# Altium schematic symbol library GeneralComponents.SchLib: 16 symbols
Pins are listed as number, name and electrical type; pins without a type are passive.

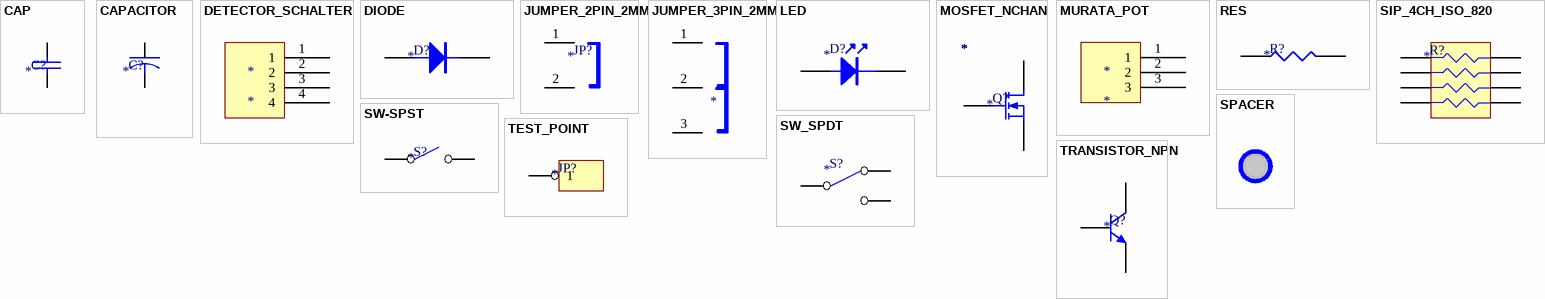
[diagram p0: symbols CAP to TRANSISTOR_NPN]

## CAP
designator C?
Generic ceramic capacitor
footprint 1206
footprint 0805
pins: 1, 2

## CAPACITOR
designator C?
General polarized capacitor
footprint 1206
footprint CAPMOTOR
footprint 0805
footprint KEMET_TANTALUM (Kemet Tantalum Capacitor B451)
pins: 1, 2

## DETECTOR_SCHALTER
designator *
footprint DETECTOR_SCHALTER (Detector Schalter Conrad JDS-1105A)
pins: 1, 2, 3, 4

## DIODE
designator D?
Generic diode
footprint 1206
footprint 1206_DIODE
footprint 0805
pins: 1 A, 2 C

## JUMPER_2PIN_2MM
designator JP?
2 pin Jumper; Text Field1: S2105-02-ND & SPE1302-ND; Text Field2: (sullens) PRPN021PAEN & (delphi) 2JM-G; Text Field3: 1302 is its mate
footprint 2PIN_2MM
footprint 2PIN_2.54MM
pins: 1, 2

## JUMPER_3PIN_2MM
designator ?
3 pin jumper; Text Field1: S2105-03-ND & SPE1302-ND; Text Field2: (sullins) PRPN031PAEN & (delphi) 2JM-G; Text Field3: 1302 is its mate
footprint 3PIN_2MM
footprint 3PIN_2.54MM
footprint JUMPER_SMT (3 pin jumper surface mount)
pins: 1, 2, 3

## LED
designator D?
General LED
footprint 1206
footprint 1206_LED
footprint 0805
pins: 1 ANODE, 2 CATHODE

## MOSFET_NCHAN
designator Q?
N-Channel MOSFET; Text Field1: BSS138ZXCT-ND; Text Field2: Zetex: BSS138; L: *; W: *; AD: *; AS: *; PD: *; PS: *; NRD: *; NRS: *; ON/OFF: *; IC: *; TEMP: *
footprint SOT-23_NFET
footprint SOT-23
pins: 1 G, 2 D, 3 S

## MURATA_POT
designator *
footprint MURATA_POT (Murata Position Sensor SV01 series)
pins: 1, 2, 3

## RES
designator R?
Generic Resistor
footprint 1206
footprint 0805
pins: 1, 2

## SIP_4CH_ISO_820
designator R?
Single Inline Package of resistors, 820 ohm, .125W, 5%; Text Field1: 744C083821JCT-ND; Text Field2: CTS: 744C083821JTR
footprint SIP_8PIN
pins: 1 (power), 2 (power), 3 (power), 4 (power), 5 (power), 6 (power), 7 (power), 8 (power)

## SPACER
designator ?
0.25 x 4-40 spacer hole; Text Field3: custom height
footprint SPACER
footprint SPACER
footprint SPACER_MINI
footprint SPACER_MINI_2MM

## SW-SPST
designator S?
pins: 1, 2

## SW_SPDT
designator S?
SPDT switch; Text Field1: CKN1189-ND & CKN1199-ND; Text Field2: (C&K) PN12SHNA03QE & 982A02000; Text Field3: 1199 is switch cap
footprint C&K_SPDT_PN_SERIES
footprint ELEDIS_SWITCH_1A (ELEDIS Toggle Switch 1A)
footprint ELEDIS_SWITCH_7A (Eledis Slide Switch 7A)
footprint NIKKAI_SS-12_SDP2 (Nikkai SS-12 on-on switch)
pins: 1 NO, 2 COMMON, 3 NC

## TEST_POINT
designator JP?
Test Point; Text Field1: 5001K-ND (black); Text Field2: 5001; Text Field3: also order 5000K (red), 5002K (white), 5004K (yellow)
pins: 1

## TRANSISTOR_NPN
designator Q?
NPN Bipolar Transistor, 200mA; Text Field1: BCW60DCT-ND; Text Field2: Discrete Semiconductor: BCW60DTA
footprint SOT-23
pins: 1 B, 2 C, 3 E